# Altium schematic symbol library NC7SZ57.SchLib: 1 symbol
Pins are listed as number, name and electrical type; pins without a type are passive.

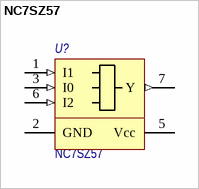
[diagram p0: symbol NC7SZ57]

## NC7SZ57
designator U?
TinyLogic UHS Universal / Configurable Two-Input / Logic Gates; Назначение: Configurable TiniLohic UHS Universal Logic Gates; Потребление, Вт: 0.01; ComponentLink1Description: DataSheet; ComponentLink1URL: https://www.onsemi.com/pdf/datasheet/nc7nz34-d.pdf; Supplier 1: Digi-Key; Supplier part number: NC7SZ57; Наименование: NC7SZ57
footprint SOT-363 (SOT-363, 6-Leads, Body 2,00x2,10mm, Pitch 0,65mm, IPC Medium Density)
pins: 1 I1 (in) "In 1", 2 GND (power), 3 I0 (in) "In 2", 5 Vcc (power), 6 I2 (in) "In 3", 7 Y (out) "Out 1"